# Altium footprint library 元器件.PCBLIB: 210 footprints (part 11 of 14)
Each footprint in its own frame and in the unit in brackets; x right, y up, seen from the top. Pads: shape width x height; smd on the part's side, far side on the other; paste and mask are expansions set on the pad; w line width, h text height; cw(c..) or ccw(c..) is an arc to the next point about the centre after c.
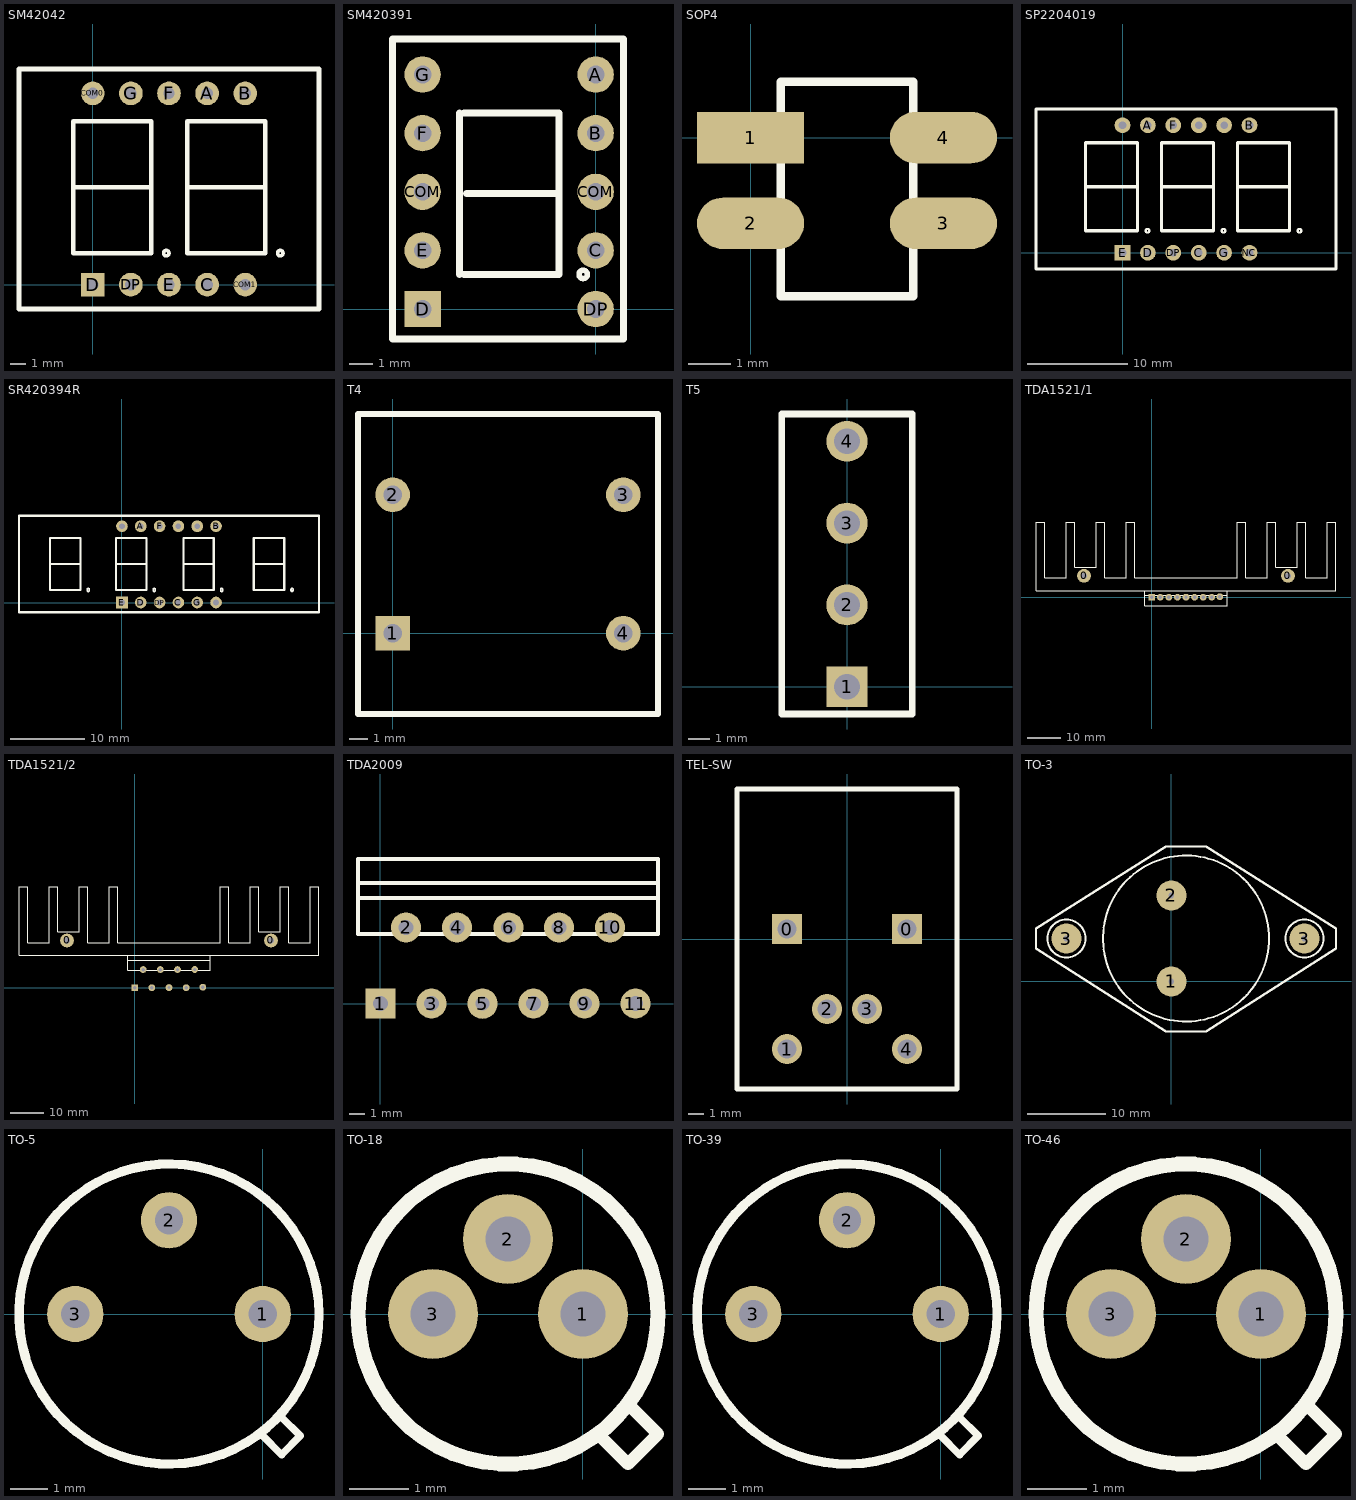
[diagram p10: the footprints below, top view; thin cyan lines are the x and y axes]

## SM42042 [mil]
pads (10):
  round 62 hole 30: A(300,501.97) B(400,501.97) C(300,0) COM0(0,501.97) COM1(400,0) DP(100,0) E(200,0) F(200,501.97) G(100,501.97)
  rect 62x62 hole 30: D(0,0)
TopOverlay:
  circle w6: c492.13,82.68 r5.57
  circle w6: c492.13,82.68 r8.8
  circle w6: c192.91,82.68 r5.57
  circle w6: c192.91,82.68 r8.8
  lines w12: -51.18,255.91 149.61,255.91 ; 248.03,255.91 448.82,255.91 ; -193.7,-63.98 593.7,-63.98 593.7,565.94 -193.7,565.94 -193.7,-63.98 ; -51.18,82.68 153.54,82.68 153.54,429.13 -51.18,429.13 -51.18,82.68 ; 248.03,82.68 452.76,82.68 452.76,429.13 248.03,429.13 248.03,82.68

## SM420391 [mil]
pads (10):
  round 62 hole 30: A(0,400) B(0,300) C(0,100) COM(-295.28,200) COM(0,200) DP(0,0) E(-295.28,100) F(-295.28,300) G(-295.28,400)
  rect 62x62 hole 30: D(-295.28,0)
TopOverlay:
  circle w6: c-21.32,59.06 r5.57
  circle w6: c-21.32,59.06 r8.8
  lines w12: -232.28,59.06 -232.28,334.65 ; -224.41,59.06 -62.99,59.06 -62.99,334.65 -224.41,334.65 ; -220.47,196.85 -62.99,196.85 ; -346.46,-51.18 47.24,-51.18 47.24,460.63 -346.46,460.63 -346.46,-51.18

## SOP4 [mm]
pads (4):
  rect 2.5x1.2 smd: 1(0,0)
  oval 2.5x1.2 smd: 2(0,-2) 3(4.5,-2) 4(4.5,0)
TopOverlay:
  lines w0.2: 0.7,-3.7 3.8,-3.7 3.8,1.3 0.7,1.3 0.7,-3.7

## SP2204019 [mil]
pads (12):
  round 62 hole 30: A(100,501.97) B(500,501.97) C(300,0) COM0(400,501.97) COM1(300,501.97) COM2(0,501.97) D(100,0) DP(200,0) F(200,501.97) G(400,0) NC(500,0)
  rect 62x62 hole 30: E(0,0)
TopOverlay:
  circle w6: c397.64,86.61 r5.57
  circle w6: c397.64,86.61 r8.8
  circle w6: c98.43,86.61 r5.57
  circle w6: c98.43,86.61 r8.8
  circle w6: c696.85,86.61 r5.57
  circle w6: c696.85,86.61 r8.8
  lines w12: -145.67,259.84 55.12,259.84 ; 153.54,259.84 354.33,259.84 ; 452.76,259.84 653.54,259.84 ; -340.55,-63.98 -340.55,565.94 840.55,565.94 840.55,-63.98 -340.55,-63.98 ; -145.67,86.61 59.05,86.61 59.05,433.07 -145.67,433.07 -145.67,86.61 ; 153.54,86.61 358.27,86.61 358.27,433.07 153.54,433.07 153.54,86.61 ; 452.76,86.61 657.48,86.61 657.48,433.07 452.76,433.07 452.76,86.61

## SR420394R [mil]
pads (12):
  round 62 hole 30: A(100,405.51) B(500,405.51) C(300,0) COM0(500,0) COM1(400,405.51) COM2(300,405.51) COM3(0,405.51) D(100,0) DP(200,0) F(200,405.51) G(400,0)
  rect 62x62 hole 30: E(0,0)
TopOverlay:
  circle w6: c903.88,66.93 r8.8
  circle w6: c903.88,66.93 r5.57
  circle w6: c529.87,66.93 r8.8
  circle w6: c529.87,66.93 r5.57
  circle w6: c171.6,66.93 r8.8
  circle w6: c171.6,66.93 r5.57
  circle w6: c-178.8,66.93 r8.8
  circle w6: c-178.8,66.93 r5.57
  lines w12: -377.95,204.72 -220.47,204.72 ; -27.56,204.72 129.92,204.72 ; 330.71,204.72 488.19,204.72 ; 704.72,204.72 862.2,204.72 ; -547.24,-51.18 1047.24,-51.18 1047.24,460.63 -547.24,460.63 -547.24,-51.18 ; -381.89,66.93 -381.89,342.52 -220.47,342.52 -220.47,66.93 -381.89,66.93 ; -31.5,66.93 -31.5,342.52 129.92,342.52 129.92,66.93 -31.5,66.93 ; 326.77,66.93 326.77,342.52 488.19,342.52 488.19,66.93 326.77,66.93 ; 700.79,66.93 700.79,342.52 862.2,342.52 862.2,66.93 700.79,66.93

## T4 [mil]
pads (4):
  rect 75x75 hole 40: 1(0,0)
  round 75 hole 40: 2(0,300) 3(500,300) 4(500,0)
TopOverlay:
  lines w12: -75,-175 575,-175 575,475 -75,475 -75,-175

## T5 [mil]
pads (4):
  rect 75x75 hole 47: 1(0,0)
  round 75 hole 47: 2(0,150) 3(0,300) 4(0,450)
TopOverlay:
  lines w12: -120,-50 -120,500 120,500 120,-50 -120,-50

## TDA1521/1 [mm]
pads (11):
  round 4.064 hole 1.778: 0(-20.066,6.35) 0(40.386,6.35)
  rect 2x2 hole 1: 1(0,0)
  round 2 hole 1: 2(2.54,0) 3(5.08,0) 4(7.62,0) 6(12.7,0) 7(15.24,0) 8(17.78,0) 9(20.178,0.152)
  round 2.032 hole 0.914: 5(10.16,0)
TopOverlay:
  lines w0.254: -2.032,0.508 22.352,0.508 ; -2.032,1.905 -2.032,-2.54 22.352,-2.54 22.352,1.905
  lines w0.305: 4.953,1.905 15.748,1.905 ; 4.953,1.905 15.748,1.905 ; 4.953,1.905 15.748,1.905 ; -34.29,1.905 -34.29,22.225 -31.75,22.225 -31.75,5.715 -25.4,5.715 -25.4,22.225 -22.86,22.225 -22.86,8.89 -16.51,8.89 -16.51,22.225 -13.97,22.225 -13.97,5.715 -7.62,5.715 -7.62,22.225 -5.08,22.225 -5.08,5.715 25.4,5.715 25.4,22.225 27.94,22.225 27.94,5.715 34.29,5.715 34.29,22.225 36.83,22.225 36.83,8.89 43.18,8.89 43.18,22.225 45.72,22.225 45.72,5.715 52.07,5.715 52.07,22.225 54.61,22.225 54.61,1.905 -34.29,1.905

## TDA1521/2 [mm]
pads (11):
  round 4.064 hole 1.778: 0(-20.066,13.97) 0(40.386,13.97)
  rect 2x2 hole 1: 1(0,0)
  round 2 hole 1: 2(2.508,5.352) 3(5.08,0) 4(7.598,5.352) 6(12.678,5.352) 7(15.24,0) 8(17.78,5.374) 9(20.178,0.152)
  round 2.032 hole 0.914: 5(10.16,0)
TopOverlay:
  lines w0.254: -2.032,8.128 22.352,8.128 ; -2.032,9.525 -2.032,5.08 22.352,5.08 22.352,9.525
  lines w0.305: 4.953,9.525 15.748,9.525 ; 4.953,9.525 15.748,9.525 ; 4.953,9.525 15.748,9.525 ; -34.29,9.525 54.61,9.525 54.61,29.845 52.07,29.845 52.07,13.335 45.72,13.335 45.72,29.845 43.18,29.845 43.18,16.51 36.83,16.51 36.83,29.845 34.29,29.845 34.29,13.335 27.94,13.335 27.94,29.845 25.4,29.845 25.4,13.335 -5.08,13.335 -5.08,29.845 -7.62,29.845 -7.62,13.335 -13.97,13.335 -13.97,29.845 -16.51,29.845 -16.51,16.51 -22.86,16.51 -22.86,29.845 -25.4,29.845 -25.4,13.335 -31.75,13.335 -31.75,29.845 -34.29,29.845 -34.29,9.525

## TDA2009 [mm]
pads (11):
  rect 2x2 hole 1: 1(0,0)
  round 2 hole 1: 2(1.7,5.08) 3(3.4,0) 4(5.1,5.08) 6(8.538,5.08) 7(10.2,0) 8(11.9,5.08) 9(13.6,0) 10(15.3,5.08) 11(17,0)
  round 2.032 hole 0.914: 5(6.8,0)
TopOverlay:
  lines w0.254: -1.5,7.03 18.5,7.03 ; -1.5,8.03 18.5,8.03 ; -1.5,4.63 -1.5,9.63 18.5,9.63 18.5,4.63 -1.5,4.63

## TEL-SW [mil]
pads (6):
  rect 75x75 hole 48: 0(-150,25) 0(150,25)
  round 75 hole 48: 1(-150,-275) 2(-50,-175) 3(50,-175) 4(150,-275)
TopOverlay:
  lines w12: -275,-375 -275,375 275,375 275,-375 -275,-375

## TO-3 [mil]
pads (4):
  round 150 hole 28: 1(0,0) 2(0,430) 3(-525,215) 3(665,215)
TopOverlay:
  circle w10: c-525,215 r95
  circle w10: c665,215 r95
  circle w10: c73,215 r415
  lines w12: -677,165 -677,265 -27,675 173,675 823,265 823,165 173,-250 -27,-250 -677,165

## TO-5 [mil]
pads (3):
  round 60 hole 30: 1(0,0) 2(-100,100) 3(-200,0)
TopOverlay:
  circle w10: c-100,0 r160
  lines w8: 0,-130 20,-150 40,-130 20,-110

## TO-18 [mil]
pads (3):
  round 60 hole 30: 1(0,0) 2(-50,50) 3(-100,0)
TopOverlay:
  circle w10: c-50,0 r100
  lines w8: 10,-80 30,-100 50,-80 30,-60

## TO-39 [mil]
pads (3):
  round 60 hole 30: 1(0,0) 2(-100,100) 3(-200,0)
TopOverlay:
  circle w10: c-100,0 r160
  lines w8: 0,-130 20,-150 40,-130 20,-110

## TO-46 [mil]
pads (3):
  round 60 hole 30: 1(0,0) 2(-50,50) 3(-100,0)
TopOverlay:
  circle w10: c-50,0 r100
  lines w8: 10,-80 30,-100 50,-80 30,-60